# Altium footprint library SON.PcbLib: 19 footprints (part 2 of 2)
Each footprint in its own frame and in the unit in brackets; x right, y up, seen from the top. Pads: shape width x height; smd on the part's side, far side on the other; paste and mask are expansions set on the pad; w line width, h text height; cw(c..) or ccw(c..) is an arc to the next point about the centre after c.
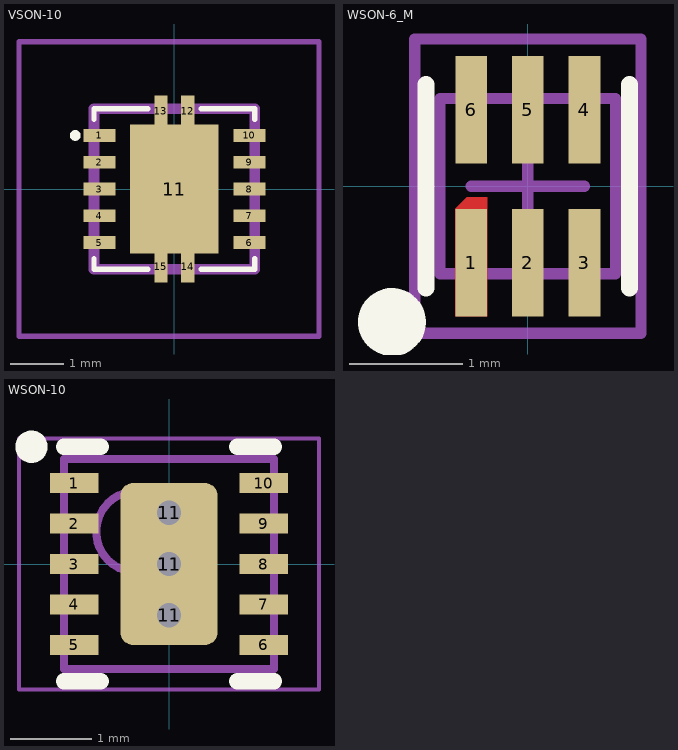
[diagram p1: the footprints below, top view; thin cyan lines are the x and y axes]

## VSON-10 [mm]
pads (15):
  rect 0.6x0.24 smd: 1(-1.4,1) 2(-1.4,0.5) 3(-1.4,0) 4(-1.4,-0.5) 5(-1.4,-1) 6(1.4,-1) 7(1.4,-0.5) 8(1.4,0) 9(1.4,0.5) 10(1.4,1)
  rect 1.65x2.4 smd: 11(0,0)
  rect 0.25x0.6 smd: 12(0.25,1.45) 13(-0.25,1.45) 14(0.25,-1.45) 15(-0.25,-1.45)
Top Overlay:
  lines w0.1: -1.5,-1.3 -1.5,-1.5 -0.5,-1.5 ; -1.5,1.3 -1.5,1.5 -0.5,1.5 ; 0.5,-1.5 1.5,-1.5 1.5,-1.3 ; 0.5,1.5 1.5,1.5 1.5,1.3 ; -1.9,1 ccw(c-1.85,1) -1.8,1 ccw(c-1.85,1) -1.9,1
Mechanical 13:
  lines w0.2: -1.5,-1.5 1.5,-1.5 1.5,1.5 -1.5,1.5 -1.5,-1.5
Mechanical 15:
  lines w0.1: -2.9,-2.75 2.7,-2.75 2.7,2.75 -2.9,2.75 -2.9,-2.75
3D body "TPS63002DRCR.stp": height 1.1, standoff 0, extent -1.5,-1.5 1.5,1.5

## WSON-6_M [mm] "WSON, 6-Leads, Body 1.55x1.55mm, Pitch 0.5mm, IPC Low Density"
height 0.8
pads (6):
  rect 0.28x0.95 smd paste-0.025 mask+0.05: 1(-0.5,-0.675) 2(0,-0.675) 3(0.5,-0.675) 4(0.5,0.675) 5(0,0.675) 6(-0.5,0.675)
Top Layer:
  region: -0.64,-0.2 -0.54,-0.1 -0.36,-0.1 -0.36,-1.15 -0.64,-1.15
Top Overlay:
  circle w0.3: c-1.2,-1.2 r0.15
  lines w0.15: -0.9,-0.9 -0.9,0.9 ; 0.9,-0.9 0.9,0.9
Mechanical 13:
  lines w0.1: -0.775,-0.775 0.775,-0.775 0.775,0.775 -0.775,0.775 -0.775,-0.775
Mechanical 15:
  lines w0.1: -0.5,0 0.5,0 ; 0,-0.5 0,0.5 ; -1,-1.3 -1,1.3 1,1.3 1,-1.3 -1,-1.3
3D body: height 0.8, standoff 0.05, extent -0.775,-0.775 0.775,0.775

## WSON-10 [mm] "SON, 10-Leads, Body 2,50x2,50mm,"
height 0.8
pads (14):
  rect 0.6x0.25 smd: 1(-1.17,1) 2(-1.17,0.5) 3(-1.17,0) 4(-1.17,-0.5) 5(-1.17,-1) 6(1.17,-1) 7(1.17,-0.5) 8(1.17,0) 9(1.17,0.5) 10(1.17,1)
  round 0.5 hole 0.3: 11(0,-0.635) 11(0,0) 11(0,0.635)
  rrect25% 1.2x2 smd: 11(0,0)
Top Overlay:
  circle w0.2: c-1.7,1.45 r0.1
  lines w0.2: -1.3,-1.45 -0.845,-1.45 ; -1.3,1.45 -0.845,1.45 ; 0.845,-1.45 1.3,-1.45 ; 0.845,1.45 1.3,1.45
Mechanical 13:
  circle w0.1: c-0.4,0.4 r0.5
  lines w0.1: -1.3,-1.3 1.3,-1.3 1.3,1.3 -1.3,1.3 -1.3,-1.3
Mechanical 15:
  lines w0.05: -1.855,-1.55 1.855,-1.55 1.855,1.55 -1.855,1.55 -1.855,-1.55
  lines w0.1: -0.5,0 0.5,0 ; 0,-0.5 0,0.5
3D body "SON50P250X80_HS-11N.step": height 0.8, standoff 0, extent -1.38,-1.3 1.38,1.3